# Altium schematic symbol library Mini-Circuits_LPF_4pin.Schlib: 1 symbol
Pins are listed as number, name and electrical type; pins without a type are passive.

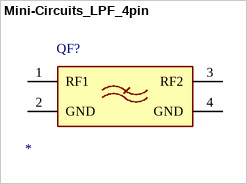
[diagram p0: symbol Mini-Circuits_LPF_4pin]

## Mini-Circuits_LPF_4pin
designator QF?
Part Number: *
pins: 1 RF1, 2 GND, 3 RF2, 4 GND